# Altium footprint library L2220-5.0mm.PcbLib: 1 footprints
Each footprint in its own frame and in the unit in brackets; x right, y up, seen from the top. Pads: shape width x height; smd on the part's side, far side on the other; paste and mask are expansions set on the pad; w line width, h text height; cw(c..) or ccw(c..) is an arc to the next point about the centre after c.
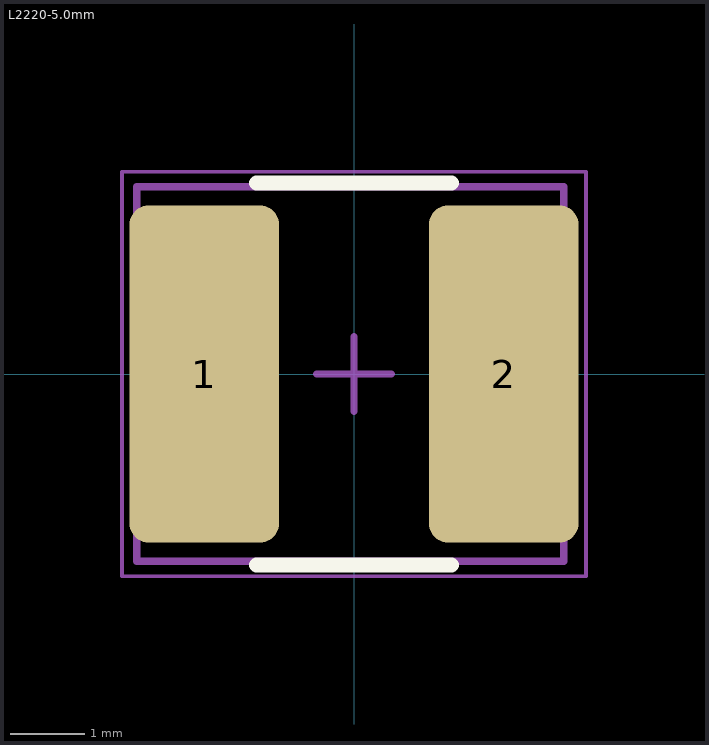
[diagram p0: the footprint, top view; thin cyan lines are the x and y axes]

## L2220-5.0mm [mm]
height 5
pads (2):
  rrect25% 2x4.5 smd: 1(-2,0) 2(2,0)
Top Overlay:
  lines w0.2: -1.3,-2.55 1.3,-2.55 ; -1.3,2.55 1.3,2.55
Mechanical 1:
  text ".Designator" at -1.905,-0.254 h1
Mechanical 13:
  lines w0.1: -2.9,-2.5 2.8,-2.5 2.8,2.5 -2.9,2.5 -2.9,-2.5
Mechanical 15:
  lines w0.05: -3.1,-2.7 3.1,-2.7 3.1,2.7 -3.1,2.7 -3.1,-2.7
  lines w0.1: -0.5,0 0.5,0 ; 0,-0.5 0,0.5
3D body: height 5.02, standoff -0.08, extent -2.85,-2.5 2.75,2.5